# Altium footprint library DIOD-SOD-123-2_V.PcbLib: 1 footprints
Each footprint in its own frame and in the unit in brackets; x right, y up, seen from the top. Pads: shape width x height; smd on the part's side, far side on the other; paste and mask are expansions set on the pad; w line width, h text height; cw(c..) or ccw(c..) is an arc to the next point about the centre after c.
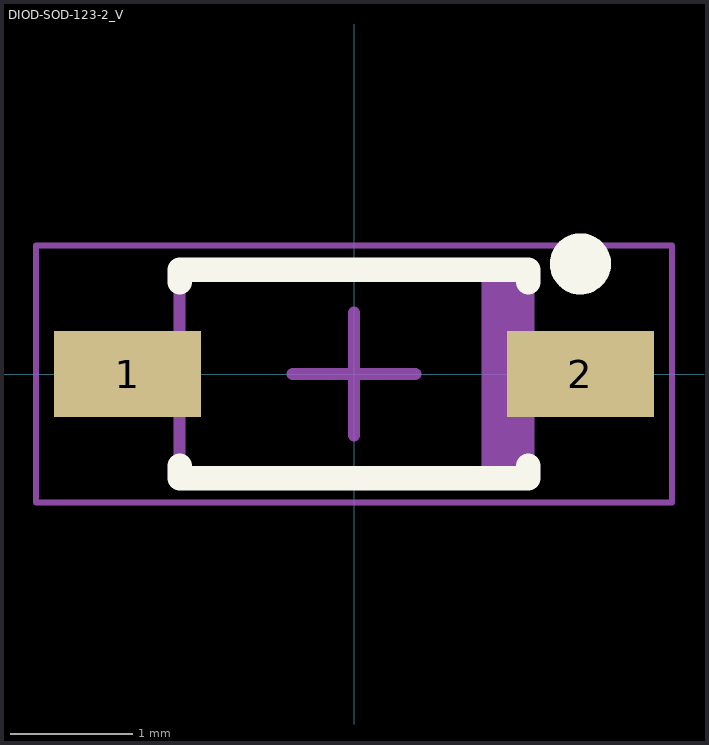
[diagram p0: the footprint, top view; thin cyan lines are the x and y axes]

## DIOD-SOD-123-2_V [mm] "SOD-123, 2-Leads, Body 2.85x1.7mm (max), Pitch 3.7mm"
height 1.45
pads (2):
  rect 1.2x0.7 smd: 1(-1.85,0) 2(1.85,0)
Top Overlay:
  circle w0.25: c1.85,0.9 r0.125
  lines w0.2: -1.425,-0.75 -1.425,-0.85 1.425,-0.85 1.425,-0.75 ; -1.425,0.75 -1.425,0.85 1.425,0.85 1.425,0.75
Mechanical 13:
  rectangle: 1.042,-0.85 1.425,0.85
  lines w0.1: -1.425,-0.85 1.425,-0.85 1.425,0.85 -1.425,0.85 -1.425,-0.85
Mechanical 15:
  lines w0.05: -2.6,-1.05 2.6,-1.05 2.6,1.05 -2.6,1.05 -2.6,-1.05
  lines w0.1: -0.5,0 0.5,0 ; 0,-0.5 0,0.5
3D body: height 1.45, standoff 0, extent -1.425,-0.85 1.425,0.85